# Altium integrated library Arduino_Lib.IntLib: 19 symbols
Pins are listed as number, name and electrical type; pins without a type are passive.

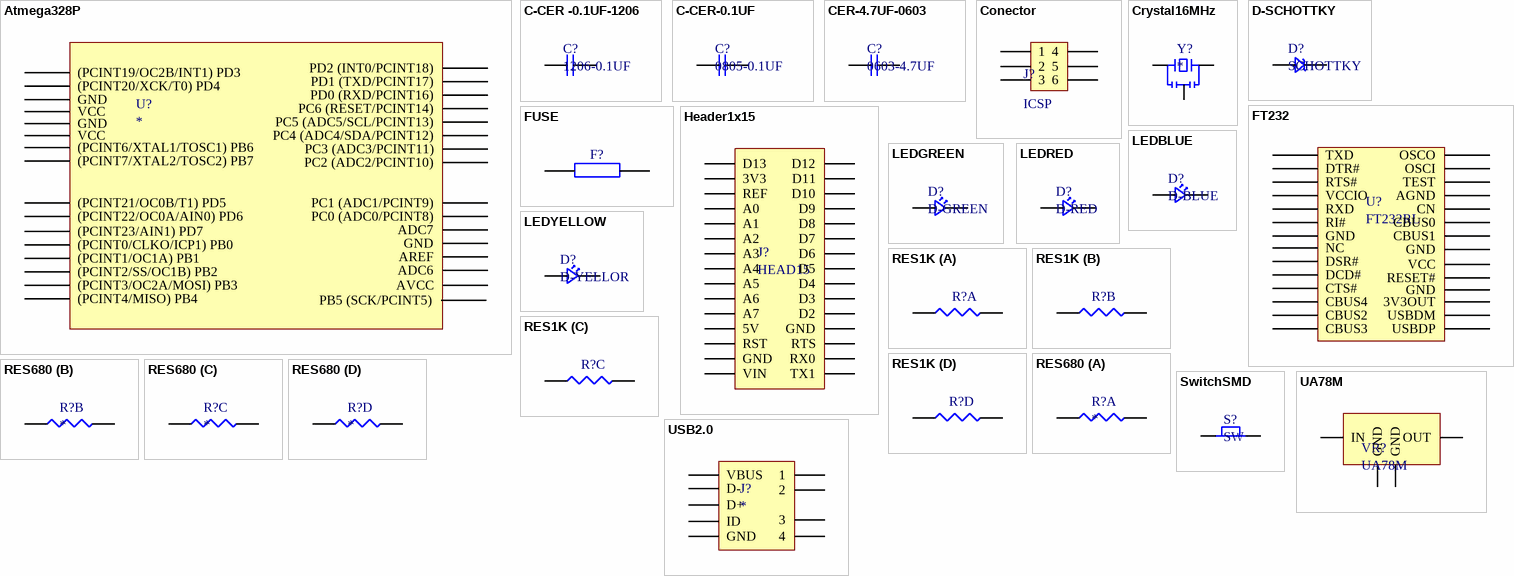
[diagram p0: symbols Atmega328P to USB2.0]

## Atmega328P
designator U?
footprint TQFP80P900X900X120-32N (TQFP, 32-Leads, Body 7.00x7.00mm, Pitch 0.80mm, IPC Medium Density)
pins: 1 (PCINT19/OC2B/INT1) PD3, 2 (PCINT20/XCK/T0) PD4, 3 GND, 4 VCC, 5 GND, 6 VCC, 7 (PCINT6/XTAL1/TOSC1) PB6, 8 (PCINT7/XTAL2/TOSC2) PB7, 9 (PCINT21/OC0B/T1) PD5, 10 (PCINT22/OC0A/AIN0) PD6, 11 (PCINT23/AIN1) PD7, 12 (PCINT0/CLKO/ICP1) PB0, 13 (PCINT1/OC1A) PB1, 14 (PCINT2/SS/OC1B) PB2, 15 (PCINT3/OC2A/MOSI) PB3, 16 (PCINT4/MISO) PB4, 17 PB5 (SCK/PCINT5), 18 AVCC, 19 ADC6, 20 AREF, 21 GND, 22 ADC7, 23 PC0 (ADC0/PCINT8), 24 PC1 (ADC1/PCINT9), 25 PC2 (ADC2/PCINT10), 26 PC3 (ADC3/PCINT11), 27 PC4 (ADC4/SDA/PCINT12), 28 PC5 (ADC5/SCL/PCINT13), 29 PC6 (RESET/PCINT14), 30 PD0 (RXD/PCINT16), 31 PD1 (TXD/PCINT17), 32 PD2 (INT0/PCINT18)

## C-CER -0.1UF-1206
designator C?, comment 1206-0.1UF
footprint CAP CER1206 (CAP CER 0.1UF 50V X7R 0805)
pins: 1, 2

## C-CER-0.1UF
designator C?, comment 0805-0.1UF
footprint CAP CER0805 (CAP CER 0.1UF 50V X7R 0805)
pins: 1, 2

## CER-4.7UF-0603
designator C?, comment 0603-4.7UF
footprint CAP CER4.7UF0603 (CAP CER 4.7UF 10V Y5V 0603)
footprint CAP CER0603 (CAP CER 4.7UF 10V Y5V 0603)
pins: 1, 2

## Conector
designator J?, comment ICSP
footprint Headers2x3
pins: 1, 2, 3, 4, 5, 6

## Crystal16MHz
designator Y?
footprint Cristal (Resonadores RECOMMENDED ALT 81-CSTNE16M0V530000R)
pins: 1, 2, 3

## D-SCHOTTKY
designator D?, comment SCHOTTKY
footprint Diode Schottky (DIODE SCHOTTKY 20V 500MA SOD123)
footprint Diode Schottky (DIODE SCHOTTKY 20V 500MA SOD123)
pins: 1, 2

## FT232
designator U?, comment FT232RL
footprint FT232
pins: 1 TXD, 2 DTR#, 3 RTS#, 4 VCCIO, 5 RXD, 6 RI#, 7 GND, 8 NC, 9 DSR#, 10 DCD#, 11 CTS#, 12 CBUS4, 13 CBUS2, 14 CBUS3, 15 USBDP, 16 USBDM, 17 3V3OUT, 18 GND, 19 RESET#, 20 VCC, 21 GND, 22 CBUS1, 23 CBUS0, 24 CN, 25 AGND, 26 TEST, 27 OSCI, 28 OSCO

## FUSE
designator F?
footprint FUSE 0603 (PTC RESET FUSE 6V 500MA 0603)
pins: 1, 2

## Header1x15
designator J?, comment HEAD15
footprint Headersx1 (Headers, 36PS 1 Row)
pins: 3V3, 5V, A0, A1, A2, A3, A4, A5, A6, A7, D2, D3, D4, D5, D6, D7, D8, D9, D10, D11, D12, D13, GND, GND, REF, RST, RST RTS, RX0, TX1, VIN

## LEDBLUE
designator D?, comment D-BLUE
footprint LEDB0805 (LED BLUE CLEAR 0805 SMD)
pins: 1, 2

## LEDGREEN
designator D?, comment D-GREEN
footprint LEDG0805 (LED GREEN CLEAR 0805 SMD)
pins: 1, 2

## LEDRED
designator D?, comment D-RED
footprint LEDR0805 (LED RED CLEAR 0805 SMD)
pins: 1, 2

## LEDYELLOW
designator D?, comment D-YELLOR
footprint LEDY0805 (LED YELLOW CLEAR 0805 SMD)
pins: 1, 2

## RES1K
designator R?
footprint RES1KX41206 (RES ARRAY 4 RES 1K OHM 1206)
part A pins: 1, 2
part B pins: 3, 4
part C pins: 5, 6
part D pins: 7, 8

## RES680
designator R?
footprint RES680x4 (RES ARRAY 4 RES 680 OHM 1206)
part A pins: 1, 2
part B pins: 3, 4
part C pins: 5, 6 7
part D pins: 7, 8

## SwitchSMD
designator S?, comment SW
footprint Switch (688-SKRKAE)
pins: 1, 2

## UA78M
designator VR?
footprint UA78M (UA78M 500-MA, 25-V LINEAR VOLTAG)
pins: 1 IN, 2 GND, 3 OUT, 4 GND

## USB2.0
designator J?
footprint USB-MINI_B (USB - mini B USB 2.0 OTG Receptacle Connector 5 Position Surface Mount, Right Angle)
pins: 1, 2, 3, 4, D+, D-, GND, ID, VBUS